# Altium footprint library NRF24L01_PA.PcbLib: 7 footprints
Each footprint in its own frame and in the unit in brackets; x right, y up, seen from the top. Pads: shape width x height; smd on the part's side, far side on the other; paste and mask are expansions set on the pad; w line width, h text height; cw(c..) or ccw(c..) is an arc to the next point about the centre after c.
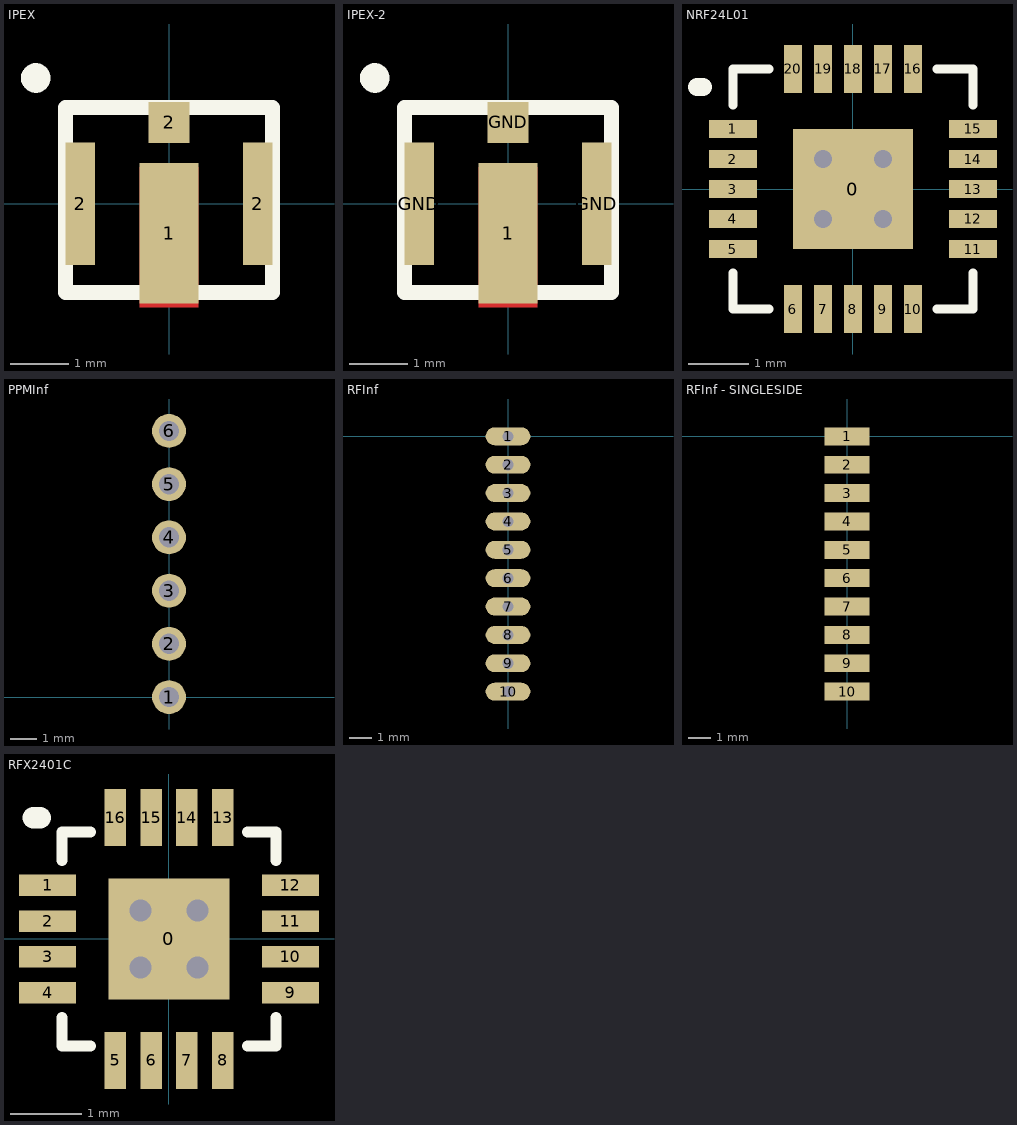
[diagram p0: the footprints below, top view; thin cyan lines are the x and y axes]

## IPEX [mm]
pads (4):
  rect 1.016x2.413 smd: 1(0,-0.508)
  rect 0.5x2.1 smd: 2(-1.524,0) 2(1.524,0)
  rect 0.7x0.7 smd: 2(0,1.397)
Top Layer:
  rectangle: -0.508,-1.778 0.508,0.635
Top Overlay:
  circle w0.254: c-2.286,2.159 r0.127
  lines w0.254: -1.778,-1.524 -0.635,-1.524 0.635,-1.524 1.778,-1.524 1.778,1.651 -1.778,1.651 -1.778,-1.524

## IPEX-2 [mm]
pads (4):
  rect 1.016x2.413 smd: 1(0,-0.508)
  rect 0.5x2.1 smd: GND(-1.524,0) GND(1.524,0)
  rect 0.7x0.7 smd: GND(0,1.397)
Top Layer:
  rectangle: -0.508,-1.778 0.508,0.635
Top Overlay:
  circle w0.254: c-2.286,2.159 r0.127
  lines w0.254: -1.778,-1.524 -1.778,1.651 1.778,1.651 1.778,-1.524 0.635,-1.524 -0.635,-1.524 -1.778,-1.524

## NRF24L01 [mm]
pads (21):
  rect 2x2 smd: 0(0,0)
  rect 0.8x0.3 smd: 1(-2,1) 2(-2,0.5) 3(-2,0) 4(-2,-0.5) 5(-2,-1) 11(2,-1) 12(2,-0.5) 13(2,0) 14(2,0.5) 15(2,1)
  rect 0.3x0.8 smd: 6(-1,-2) 7(-0.5,-2) 8(0,-2) 9(0.5,-2) 10(1,-2) 16(1,2) 17(0.5,2) 18(0,2) 19(-0.5,2) 20(-1,2)
via 0.5,0.5 diameter 0.508 hole 0.305
via 0.5,-0.5 diameter 0.508 hole 0.305
via -0.5,-0.5 diameter 0.508 hole 0.305
via -0.5,0.5 diameter 0.508 hole 0.305
Top Overlay:
  lines w0.152: -2,-1.4 -2,-2 -1.4,-2 ; -2,1.4 -2,2 -1.4,2 ; 1.4,-2 2,-2 2,-1.4 ; 1.4,2 2,2 2,1.4
  lines w0.3: -2.6,1.7 -2.5,1.7

## PPMInf [mil]
pads (6):
  round 50 hole 30: 1(0,0) 2(0,78.74) 3(0,157.48) 4(0,236.22) 5(0,314.96) 6(0,393.7)

## RFInf [mm]
pads (10):
  oval 2x0.8 hole 0.5: 1(0,0) 2(0,-1.27) 3(0,-2.54) 4(0,-3.81) 5(0,-5.08) 6(0,-6.35) 7(0,-7.62) 8(0,-8.89) 9(0,-10.16) 10(0,-11.43)

## RFInf - SINGLESIDE [mm]
pads (10):
  rect 2x0.8 smd: 1(0,0) 2(0,-1.27) 3(0,-2.54) 4(0,-3.81) 5(0,-5.08) 6(0,-6.35) 7(0,-7.62) 8(0,-8.89) 9(0,-10.16) 10(0,-11.43)

## RFX2401C [mm]
pads (17):
  rect 1.7x1.7 smd: 0(0,0)
  rect 0.8x0.3 smd: 1(-1.7,0.75) 2(-1.7,0.25) 3(-1.7,-0.25) 4(-1.7,-0.75) 9(1.7,-0.75) 10(1.7,-0.25) 11(1.7,0.25) 12(1.7,0.75)
  rect 0.3x0.8 smd: 5(-0.75,-1.7) 6(-0.25,-1.7) 7(0.25,-1.7) 8(0.75,-1.7) 13(0.75,1.7) 14(0.25,1.7) 15(-0.25,1.7) 16(-0.75,1.7)
via -0.4,0.4 diameter 0.508 hole 0.305
via -0.4,-0.4 diameter 0.508 hole 0.305
via 0.4,-0.4 diameter 0.508 hole 0.305
via 0.4,0.4 diameter 0.508 hole 0.305
Top Overlay:
  lines w0.152: -1.5,-1.1 -1.5,-1.5 -1.1,-1.5 ; -1.5,1.1 -1.5,1.5 -1.1,1.5 ; 1.1,-1.5 1.5,-1.5 1.5,-1.1 ; 1.1,1.5 1.5,1.5 1.5,1.1
  lines w0.3: -1.9,1.7 -1.8,1.7